# Altium schematic symbol library Molex_Coneectors_Sch.SchLib: 9 symbols
Pins are listed as number, name and electrical type; pins without a type are passive.

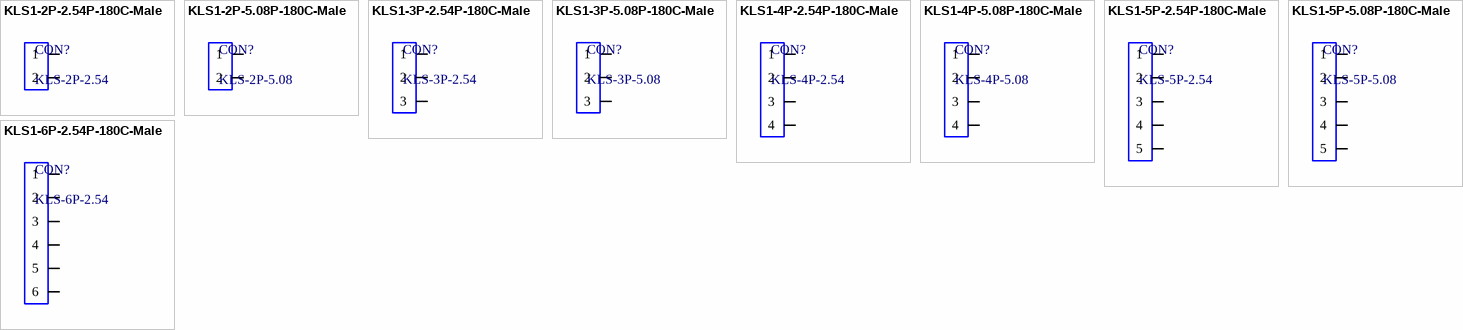
[diagram p0: symbols KLS1-2P-2.54P-180C-Male to KLS1-6P-2.54P-180C-Male]

## KLS1-2P-2.54P-180C-Male
designator CON?, comment KLS-2P-2.54
CON.T.B.2.54MM 2PIN(1X2) THT V/T MALE KLS; Number of Position: 2; Pitch: 2.54; Number of Rows: 1; Mounting Type: Vertical 180C; ComponentLink1Description: Link; Gender: Male
footprint KLS-2P-2.54-180C-THT
pins: 1, 2

## KLS1-2P-5.08P-180C-Male
designator CON?, comment KLS-2P-5.08
CON.T.B.5.08MM 2PIN(1X2) THT V/T MALE KLS; Number of Position: 2; Pitch: 5.08; Number of Rows: 1; Mounting Type: Vertical 180C; ComponentLink1Description: Link; Gender: Male
footprint KLS-2P-5.08P-180C-THT
pins: 1, 2

## KLS1-3P-2.54P-180C-Male
designator CON?, comment KLS-3P-2.54
CON.T.B.2.54MM 3PIN(1X3) THT V/T MALE KLS; Number of Position: 3; Pitch: 2.54; Number of Rows: 1; Mounting Type: Vertical 180C; ComponentLink1Description: Link; Gender: Male
footprint KLS-3P-2.54-180C-THT
pins: 1, 2, 3

## KLS1-3P-5.08P-180C-Male
designator CON?, comment KLS-3P-5.08
CON.T.B.5.08MM 3PIN(1X3) THT V/T MALE KLS; Number of Position: 3; Pitch: 5.08; Number of Rows: 1; Mounting Type: Vertical 180C; ComponentLink1Description: Link; Gender: Male
footprint KLS-3P-5.08P-180C-THT
pins: 1, 2, 3

## KLS1-4P-2.54P-180C-Male
designator CON?, comment KLS-4P-2.54
CON.T.B.2.54MM 4PIN(1X4) THT V/T MALE KLS; Number of Position: 4; Pitch: 2.54; Number of Rows: 1; Mounting Type: Vertical 180C; ComponentLink1Description: Link; Gender: Male
footprint KLS-4P-2.54-180C-THT
pins: 1, 2, 3, 4

## KLS1-4P-5.08P-180C-Male
designator CON?, comment KLS-4P-5.08
CON.T.B.5.08MM 4PIN(1X4) THT V/T MALE KLS; Number of Position: 4; Pitch: 5.08; Number of Rows: 1; Mounting Type: Vertical 180C; ComponentLink1Description: Link; Gender: Male
footprint KLS-4P-5.08P-180C-THT
pins: 1, 2, 3, 4

## KLS1-5P-2.54P-180C-Male
designator CON?, comment KLS-5P-2.54
CON.T.B.2.54MM 5PIN(1X5) THT V/T MALE KLS; Number of Position: 5; Pitch: 2.54; Number of Rows: 1; Mounting Type: Vertical 180C; ComponentLink1Description: Link; Gender: Male
footprint KLS-5P-2.54-180C-THT
pins: 1, 2, 3, 4, 5

## KLS1-5P-5.08P-180C-Male
designator CON?, comment KLS-5P-5.08
CON.T.B.5.08MM 5PIN(1X5) THT V/T MALE KLS; Number of Position: 5; Pitch: 5.08; Number of Rows: 1; Mounting Type: Vertical 180C; ComponentLink1Description: Link; Gender: Male
footprint KLS-5P-5.08P-180C-THT
pins: 1, 2, 3, 4, 5

## KLS1-6P-2.54P-180C-Male
designator CON?, comment KLS-6P-2.54
CON.T.B.2.54MM 5PIN(1X6) THT V/T MALE KLS; Number of Position: 6; Pitch: 2.54; Number of Rows: 1; Mounting Type: Vertical 180C; ComponentLink1Description: Link; Gender: Male
footprint KLS-6P-2.54-180C-THT
pins: 1, 2, 3, 4, 5, 6